# EAGLE library part 62100821921 (library Header_R_ESP32)
2.00mm SMT Straight Dual Pin Header WR-PHD Manufacturer's datasheet <https://katalog.we-online.com/em/datasheet/62100821921.pdf>
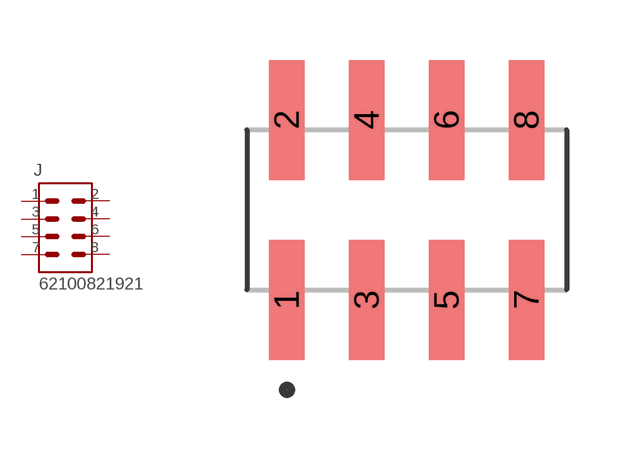
[diagram p18: symbol with the pads of 62100821921; footprint 62100821921]

Designator prefix J

## 62100821921 (CREATED_BY: PCBLayout.com; MANUFACTURER: Wurth Elektronik; MPN: 62100821921)  [62100821921]
1  1  pas
2  2  pas
3  3  pas
4  4  pas
5  5  pas
6  6  pas
7  7  pas
8  8  pas

## Footprint 62100821921 (pad centres in mm)
smd 0.89 x 3: 1 -3,-2.25; 2 -3,2.25; 3 -1,-2.25; 4 -1,2.25; 5 1,-2.25; 6 1,2.25; 7 3,-2.25; 8 3,2.25